# Altium footprint library QB50_base_board.PcbLib: 25 footprints (part 1 of 2)
Each footprint in its own frame and in the unit in brackets; x right, y up, seen from the top. Pads: shape width x height; smd on the part's side, far side on the other; paste and mask are expansions set on the pad; w line width, h text height; cw(c..) or ccw(c..) is an arc to the next point about the centre after c.
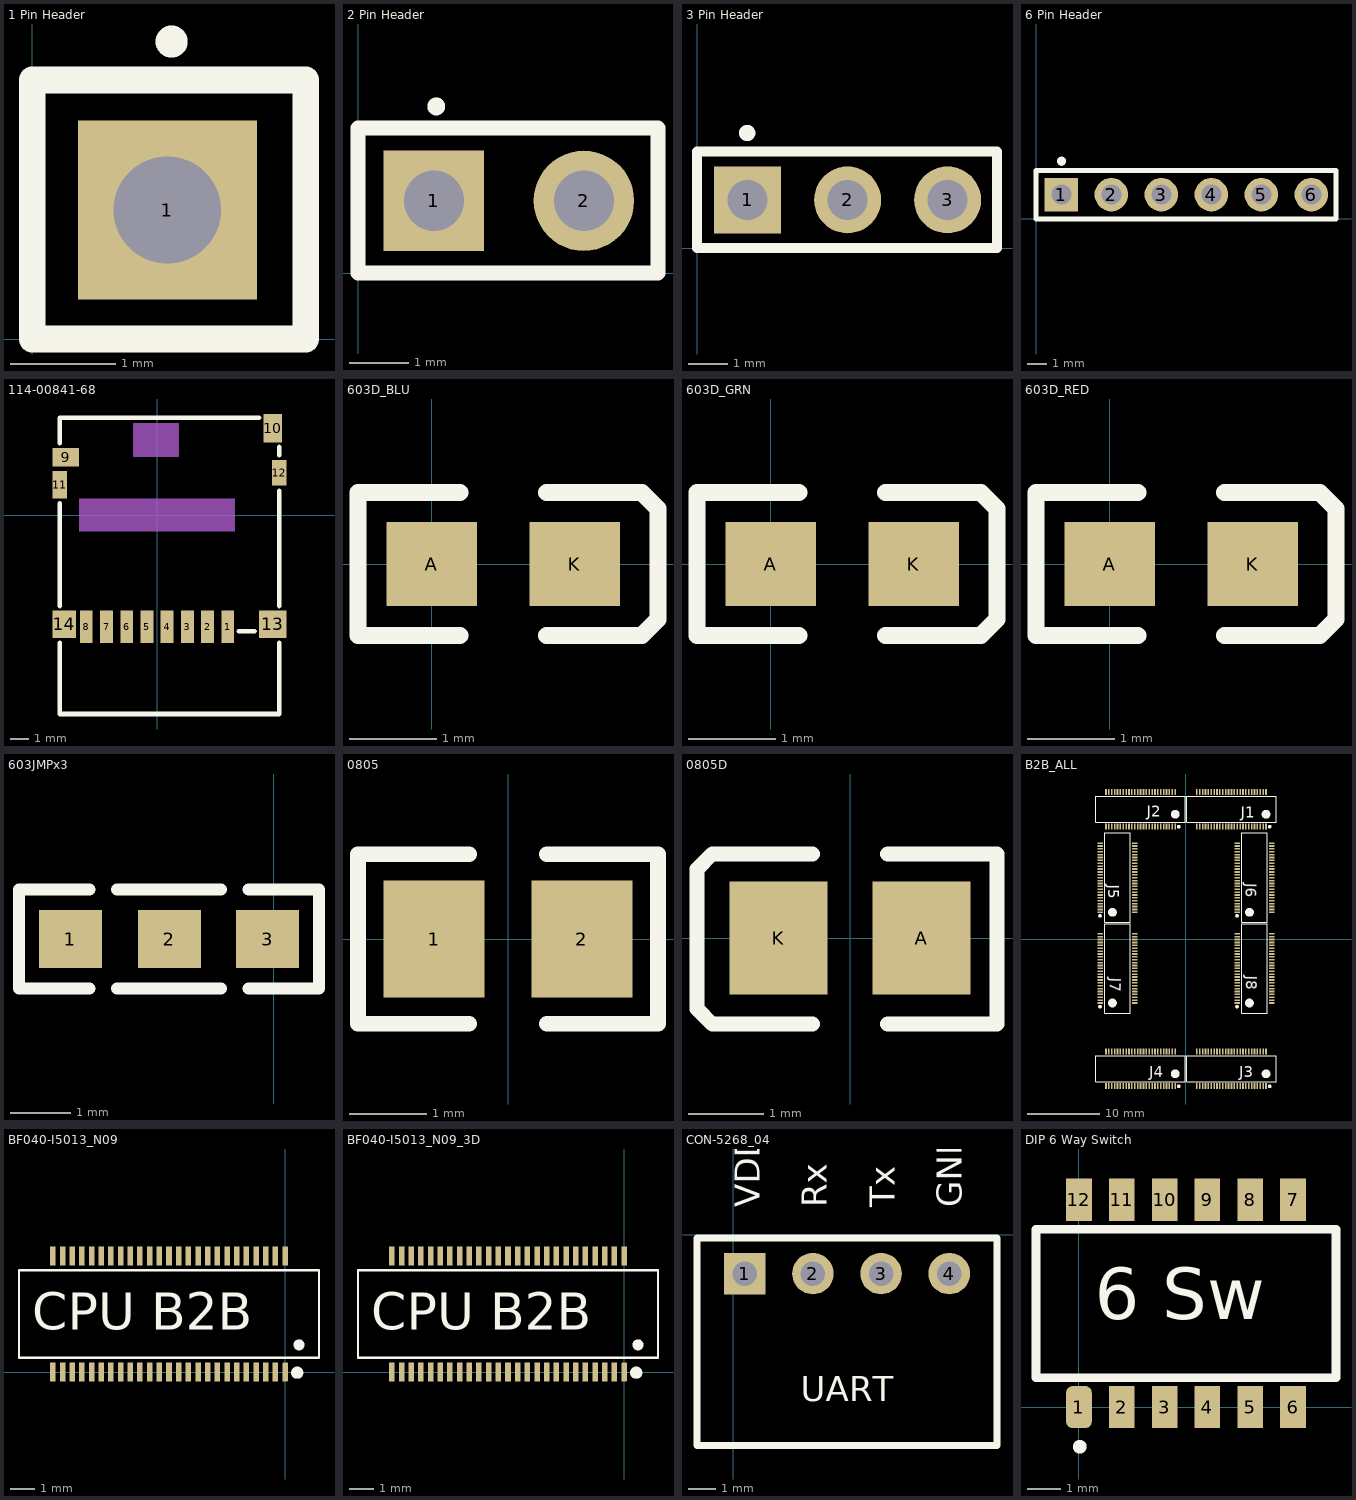
[diagram p0: the footprints below, top view; thin cyan lines are the x and y axes]

## 1 Pin Header [mm] "1-pin header plug"
pads (1):
  rect 1.7x1.7 hole 1.02: 1(1.285,1.225)
Top Overlay:
  circle w0.254: c1.325,2.825 r0.025
  lines w0.254: 0,0 2.6,0 2.6,2.46 0,2.46 0,0

## 2 Pin Header [mm] "2-pin header plug"
pads (2):
  rect 1.7x1.7 hole 1.02: 1(1.285,1.225)
  round 1.7 hole 1.02: 2(3.825,1.225)
Top Overlay:
  circle w0.254: c1.325,2.825 r0.025
  lines w0.254: 0,0 5.08,0 5.08,2.46 0,2.46 0,0

## 3 Pin Header [mm] "3-pin header plug"
pads (3):
  rect 1.7x1.7 hole 1.02: 1(1.285,1.225)
  round 1.7 hole 1.02: 2(3.825,1.225) 3(6.365,1.225)
Top Overlay:
  circle w0.254: c1.275,2.925 r0.079
  lines w0.254: 0,0 0,2.46 7.62,2.46 7.62,0 0,0

## 6 Pin Header [mm] "6-pin header plug"
pads (6):
  rect 1.7x1.7 hole 1.02: 1(1.285,1.225)
  round 1.7 hole 1.02: 2(3.825,1.225) 3(6.365,1.225) 4(8.905,1.225) 5(11.445,1.225) 6(13.985,1.225)
Top Overlay:
  circle w0.254: c1.297,2.925 r0.103
  lines w0.254: 0,0 15.24,0 15.24,2.46 0,2.46 0,0

## 114-00841-68 [mm] "Amphenol MicroSD Card Connector"
height 3
pads (14):
  rect 0.7x1.75 smd: 1(3.85,-6.075) 2(2.75,-6.075) 3(1.65,-6.075) 4(0.55,-6.075) 5(-0.55,-6.075) 6(-1.65,-6.075) 7(-2.75,-6.075) 8(-3.85,-6.075)
  rect 1.45x1 smd: 9(-4.975,3.15)
  rect 1x1.55 smd: 10(6.3,4.725)
  rect 0.8x1.5 smd: 11(-5.3,1.65)
  rect 0.8x1.4 smd: 12(6.65,2.3)
  rect 1.5x1.5 smd: 13(6.3,-5.95)
  rect 1.3x1.5 smd: 14(-5.05,-5.95)
Top Overlay:
  lines w0.254: -5.3,-6.95 -5.3,-10.825 6.65,-10.825 6.65,-6.95 ; -5.3,-4.95 -5.3,0.65 ; -5.3,3.9 -5.3,5.3 5.55,5.3 ; 4.45,-6.325 5.3,-6.325 ; 6.65,-4.95 6.65,1.325 ; 6.65,3.25 6.65,3.7
Mechanical 13:
  rectangle: -1.3,3.15 1.2,5
  rectangle: -4.25,-0.9 4.25,0.9
3D body: height 1.6, standoff 0.5, extent -4.95,-10.6 6.225,-9.25
3D body: height 1.45, standoff 0.5, extent -4.95,-10.6 6.225,-6.675
3D body: height 1.55, standoff 0, extent -5.3,-6.675 6.65,5.3

## 603D_BLU [mm] "blue led"
pads (2):
  rect 1.04x0.96 smd: A(0,0) K(1.64,0)
Top Overlay:
  lines w0.2: 0.32,-0.822 -0.85,-0.822 -0.85,0.822 0.32,0.822 ; 1.32,-0.822 2.411,-0.822 2.598,-0.635 2.598,0.635 2.411,0.822 1.32,0.822
3D body: height 0.8, standoff 0, extent -0.1,-0.475 1.75,0.475

## 603D_GRN [mm] "Green LED"
pads (2):
  rect 1.04x0.96 smd: A(0,0) K(1.64,0)
Top Overlay:
  lines w0.2: 0.32,-0.822 -0.85,-0.822 -0.85,0.822 0.32,0.822 ; 1.32,-0.822 2.411,-0.822 2.598,-0.635 2.598,0.635 2.411,0.822 1.32,0.822
3D body: height 0.8, standoff 0, extent -0.1,-0.475 1.75,0.475

## 603D_RED [mm] "red led"
pads (2):
  rect 1.04x0.96 smd: A(0,0) K(1.64,0)
Top Overlay:
  lines w0.2: 0.32,-0.822 -0.85,-0.822 -0.85,0.822 0.32,0.822 ; 1.32,-0.822 2.411,-0.822 2.598,-0.635 2.598,0.635 2.411,0.822 1.32,0.822
3D body: height 0.8, standoff 0, extent -0.1,-0.475 1.75,0.475

## 603JMPx3 [mm] "3 pin jumper based on 603 print"
pads (3):
  rect 1.04x0.96 smd: 1(-3.37,-3.725) 2(-1.73,-3.725) 3(-0.105,-3.725)
Top Overlay:
  lines w0.2: -3.05,-4.547 -4.22,-4.547 -4.22,-2.903 -3.05,-2.903 ; -2.595,-4.547 -1.425,-4.547 ; -2.595,-2.903 -1.425,-2.903 ; -2.05,-4.547 -0.88,-4.547 ; -2.05,-2.903 -0.88,-2.903 ; -0.425,-4.547 0.745,-4.547 0.745,-2.903 -0.425,-2.903

## 0805 [mm] "0805 Footprint"
height 1
pads (2):
  rect 1.3x1.5 smd: 1(-0.95,0) 2(0.95,0)
Top Overlay:
  lines w0.2: -0.5,-1.092 -1.93,-1.092 -1.93,1.092 -0.5,1.092 ; 0.5,-1.092 1.93,-1.092 1.93,1.092 0.5,1.092
3D body "User Library-0805 SMD Resistor.step": height 0.8, standoff 0.02, extent -1.025,-0.64 0.975,0.61

## 0805D [mm] "0805 Diode"
height 1
pads (2):
  rect 1.3x1.5 smd: A(0.95,0) K(-0.95,0)
Top Overlay:
  lines w0.2: -0.5,-1.143 -1.829,-1.143 -2.032,-0.94 -2.032,0.914 -1.829,1.118 -0.5,1.118 ; 0.5,-1.143 1.95,-1.143 1.95,1.118 0.5,1.118
3D body "User Library-led_0805.step": height 1.1, standoff 0, extent -1.01,-0.625 1.01,0.625

## B2B_ALL [mm] "For Reference only - Hard Kernel CPU Board"
pads (400):
  rect 0.8x0.23 smd paste+0 mask+0.05: 1(-11.9,-8.875) 1(-11.9,-8.475) 1(-11.9,-8.075) 1(-11.9,-7.675) 1(-11.9,-7.275) 1(-11.9,-6.875) 1(-11.9,-6.475) 1(-11.9,-6.075) 1(-11.9,-5.675) 1(-11.9,-5.275) 1(-11.9,-4.875) 1(-11.9,-4.475) 1(-11.9,-4.075) 1(-11.9,-3.675) 1(-11.9,-3.275) 1(-11.9,-2.875) 1(-11.9,-2.475) 1(-11.9,-2.075) 1(-11.9,-1.675) 1(-11.9,-1.275) 1(-11.9,-0.875) 1(-11.9,-0.475) 1(-11.9,-0.075) 1(-11.9,0.325) 1(-11.9,0.725) 1(-11.9,3.7) 1(-11.9,4.1) 1(-11.9,4.5) 1(-11.9,4.9) 1(-11.9,5.3) 1(-11.9,5.7) 1(-11.9,6.1) 1(-11.9,6.5) 1(-11.9,6.9) 1(-11.9,7.3) 1(-11.9,7.7) 1(-11.9,8.1) 1(-11.9,8.5) 1(-11.9,8.9) 1(-11.9,9.3) 1(-11.9,9.7) 1(-11.9,10.1) 1(-11.9,10.5) 1(-11.9,10.9) 1(-11.9,11.3) 1(-11.9,11.7) 1(-11.9,12.1) 1(-11.9,12.5) 1(-11.9,12.9) 1(-11.9,13.3) 1(-7.1,-8.875) 1(-7.1,-8.475) 1(-7.1,-8.075) 1(-7.1,-7.675) 1(-7.1,-7.275) 1(-7.1,-6.875) 1(-7.1,-6.475) 1(-7.1,-6.075) 1(-7.1,-5.675) 1(-7.1,-5.275) 1(-7.1,-4.875) 1(-7.1,-4.475) 1(-7.1,-4.075) 1(-7.1,-3.675) 1(-7.1,-3.275) 1(-7.1,-2.875) 1(-7.1,-2.475) 1(-7.1,-2.075) 1(-7.1,-1.675) 1(-7.1,-1.275) 1(-7.1,-0.875) 1(-7.1,-0.475) 1(-7.1,-0.075) 1(-7.1,0.325) 1(-7.1,0.725) 1(-7.1,3.7) 1(-7.1,4.1) 1(-7.1,4.5) 1(-7.1,4.9) 1(-7.1,5.3) 1(-7.1,5.7) 1(-7.1,6.1) 1(-7.1,6.5) 1(-7.1,6.9) 1(-7.1,7.3) 1(-7.1,7.7) 1(-7.1,8.1) 1(-7.1,8.5) 1(-7.1,8.9) 1(-7.1,9.3) 1(-7.1,9.7) 1(-7.1,10.1) 1(-7.1,10.5) 1(-7.1,10.9) 1(-7.1,11.3) 1(-7.1,11.7) 1(-7.1,12.1) 1(-7.1,12.5) 1(-7.1,12.9) 1(-7.1,13.3) 1(7.1,-8.875) 1(7.1,-8.475) 1(7.1,-8.075) 1(7.1,-7.675) 1(7.1,-7.275) 1(7.1,-6.875) 1(7.1,-6.475) 1(7.1,-6.075) 1(7.1,-5.675) 1(7.1,-5.275) 1(7.1,-4.875) 1(7.1,-4.475) 1(7.1,-4.075) 1(7.1,-3.675) 1(7.1,-3.275) 1(7.1,-2.875) 1(7.1,-2.475) 1(7.1,-2.075) 1(7.1,-1.675) 1(7.1,-1.275) 1(7.1,-0.875) 1(7.1,-0.475) 1(7.1,-0.075) 1(7.1,0.325) 1(7.1,0.725) 1(7.1,3.7) 1(7.1,4.1) 1(7.1,4.5) 1(7.1,4.9) 1(7.1,5.3) 1(7.1,5.7) 1(7.1,6.1) 1(7.1,6.5) 1(7.1,6.9) 1(7.1,7.3) 1(7.1,7.7) 1(7.1,8.1) 1(7.1,8.5) 1(7.1,8.9) 1(7.1,9.3) 1(7.1,9.7) 1(7.1,10.1) 1(7.1,10.5) 1(7.1,10.9) 1(7.1,11.3) 1(7.1,11.7) 1(7.1,12.1) 1(7.1,12.5) 1(7.1,12.9) 1(11.9,-8.875) 1(11.9,-8.475) 1(11.9,-8.075) 1(11.9,-7.675) 1(11.9,-7.275) 1(11.9,-6.875) 1(11.9,-6.475) 1(11.9,-6.075) 1(11.9,-5.675) 1(11.9,-5.275) 1(11.9,-4.875) 1(11.9,-4.475) 1(11.9,-4.075) 1(11.9,-3.675) 1(11.9,-3.275) 1(11.9,-2.875) 1(11.9,-2.475) 1(11.9,-2.075) 1(11.9,-1.675) 1(11.9,-1.275) 1(11.9,-0.875) 1(11.9,-0.475) 1(11.9,-0.075) 1(11.9,0.325) 1(11.9,0.725) 1(11.9,3.7) 1(11.9,4.1) 1(11.9,4.5) 1(11.9,4.9) 1(11.9,5.3) 1(11.9,5.7) 1(11.9,6.1) 1(11.9,6.5) 1(11.9,6.9) 1(11.9,7.3) 1(11.9,7.7) 1(11.9,8.1) 1(11.9,8.5) 1(11.9,8.9) 1(11.9,9.3) 1(11.9,9.7) 1(11.9,10.1) 1(11.9,10.5) 1(11.9,10.9) 1(11.9,11.3) 1(11.9,11.7) 1(11.9,12.1) 1(11.9,12.5) 1(11.9,12.9) 1(11.9,13.3)
  rect 0.23x0.8 smd paste+0 mask+0.05: 1(-11.1,-20.4) 1(-11.1,-15.6) 1(-11.1,15.6) 1(-11.1,20.4) 1(-10.7,-20.4) 1(-10.7,-15.6) 1(-10.7,15.6) 1(-10.7,20.4) 1(-10.3,-20.4) 1(-10.3,-15.6) 1(-10.3,15.6) 1(-10.3,20.4) 1(-9.9,-20.4) 1(-9.9,-15.6) 1(-9.9,15.6) 1(-9.9,20.4) 1(-9.5,-20.4) 1(-9.5,-15.6) 1(-9.5,15.6) 1(-9.5,20.4) 1(-9.1,-20.4) 1(-9.1,-15.6) 1(-9.1,15.6) 1(-9.1,20.4) 1(-8.7,-20.4) 1(-8.7,-15.6) 1(-8.7,15.6) 1(-8.7,20.4) 1(-8.3,-20.4) 1(-8.3,-15.6) 1(-8.3,15.6) 1(-8.3,20.4) 1(-7.9,-20.4) 1(-7.9,-15.6) 1(-7.9,15.6) 1(-7.9,20.4) 1(-7.5,-20.4) 1(-7.5,-15.6) 1(-7.5,15.6) 1(-7.5,20.4) 1(-7.1,-20.4) 1(-7.1,-15.6) 1(-7.1,15.6) 1(-7.1,20.4) 1(-6.7,-20.4) 1(-6.7,-15.6) 1(-6.7,15.6) 1(-6.7,20.4) 1(-6.3,-20.4) 1(-6.3,-15.6) 1(-6.3,15.6) 1(-6.3,20.4) 1(-5.9,-20.4) 1(-5.9,-15.6) 1(-5.9,15.6) 1(-5.9,20.4) 1(-5.5,-20.4) 1(-5.5,-15.6) 1(-5.5,15.6) 1(-5.5,20.4) 1(-5.1,-20.4) 1(-5.1,-15.6) 1(-5.1,15.6) 1(-5.1,20.4) 1(-4.7,-20.4) 1(-4.7,-15.6) 1(-4.7,15.6) 1(-4.7,20.4) 1(-4.3,-20.4) 1(-4.3,-15.6) 1(-4.3,15.6) 1(-4.3,20.4) 1(-3.9,-20.4) 1(-3.9,-15.6) 1(-3.9,15.6) 1(-3.9,20.4) 1(-3.5,-20.4) 1(-3.5,-15.6) 1(-3.5,15.6) 1(-3.5,20.4) 1(-3.1,-20.4) 1(-3.1,-15.6) 1(-3.1,15.6) 1(-3.1,20.4) 1(-2.7,-20.4) 1(-2.7,-15.6) 1(-2.7,15.6) 1(-2.7,20.4) 1(-2.3,-20.4) 1(-2.3,-15.6) 1(-2.3,15.6) 1(-2.3,20.4) 1(-1.9,-20.4) 1(-1.9,-15.6) 1(-1.9,15.6) 1(-1.9,20.4) 1(-1.5,-20.4) 1(-1.5,-15.6) 1(-1.5,15.6) 1(-1.5,20.4) 1(1.5,-20.4) 1(1.5,-15.6) 1(1.5,15.6) 1(1.5,20.4) 1(1.9,-20.4) 1(1.9,-15.6) 1(1.9,15.6) 1(1.9,20.4) 1(2.3,-20.4) 1(2.3,-15.6) 1(2.3,15.6) 1(2.3,20.4) 1(2.7,-20.4) 1(2.7,-15.6) 1(2.7,15.6) 1(2.7,20.4) 1(3.1,-20.4) 1(3.1,-15.6) 1(3.1,15.6) 1(3.1,20.4) 1(3.5,-20.4) 1(3.5,-15.6) 1(3.5,15.6) 1(3.5,20.4) 1(3.9,-20.4) 1(3.9,-15.6) 1(3.9,15.6) 1(3.9,20.4) 1(4.3,-20.4) 1(4.3,-15.6) 1(4.3,15.6) 1(4.3,20.4) 1(4.7,-20.4) 1(4.7,-15.6) 1(4.7,15.6) 1(4.7,20.4) 1(5.1,-20.4) 1(5.1,-15.6) 1(5.1,15.6) 1(5.1,20.4) 1(5.5,-20.4) 1(5.5,-15.6) 1(5.5,15.6) 1(5.5,20.4) 1(5.9,-20.4) 1(5.9,-15.6) 1(5.9,15.6) 1(5.9,20.4) 1(6.3,-20.4) 1(6.3,-15.6) 1(6.3,15.6) 1(6.3,20.4) 1(6.7,-20.4) 1(6.7,-15.6) 1(6.7,15.6) 1(6.7,20.4) 1(7.1,-20.4) 1(7.1,-15.6) 1(7.1,15.6) 1(7.1,20.4) 1(7.5,-20.4) 1(7.5,-15.6) 1(7.5,15.6) 1(7.5,20.4) 1(7.9,-20.4) 1(7.9,-15.6) 1(7.9,15.6) 1(7.9,20.4) 1(8.3,-20.4) 1(8.3,-15.6) 1(8.3,15.6) 1(8.3,20.4) 1(8.7,-20.4) 1(8.7,-15.6) 1(8.7,15.6) 1(8.7,20.4) 1(9.1,-20.4) 1(9.1,-15.6) 1(9.1,15.6) 1(9.1,20.4) 1(9.5,-20.4) 1(9.5,-15.6) 1(9.5,15.6) 1(9.5,20.4) 1(9.9,-20.4) 1(9.9,-15.6) 1(9.9,15.6) 1(9.9,20.4) 1(10.3,-20.4) 1(10.3,-15.6) 1(10.3,15.6) 1(10.3,20.4) 1(10.7,-20.4) 1(10.7,-15.6) 1(10.7,15.6) 1(10.7,20.4) 1(11.1,-20.4) 1(11.1,-15.6) 1(11.1,15.6) 1(11.1,20.4)
  rect 0.8x0.23 smd: 1(7.1,13.3)
Top Layer:
  text "For Reference Only" at 2.911,13.401 h1.52
  text "For Reference Only" at -4.989,13.751 h1.52
  text "For Reference Only" at -0.714,13.826 h1.52
Top Overlay:
  drawing of 1472 lines, arcs and shapes, not listed
  text "J3" at 7.386,-19.174 h1.52
  text "J4" at -5.114,-19.174 h1.52
  text "J8" at 8.386,-5.074 h1.52
  text "J7" at -10.514,-5.374 h1.52
  text "J6" at 8.286,7.726 h1.52
  text "J5" at -10.814,7.526 h1.52
  text "J2" at -5.414,16.926 h1.52
  text "J1" at 7.586,16.826 h1.52

## BF040-I5013_N09 [mm] "Single B2B Connector for Hard Kernel CPU Module"
pads (50):
  rrect50% 0.23x0.8 smd paste+0 mask+0.05: 1(0,0)
  rect 0.23x0.8 smd paste+0 mask+0.05: 2(-0.4,0) 3(-0.8,0) 4(-1.2,0) 5(-1.6,0) 6(-2,0) 7(-2.4,0) 8(-2.8,0) 9(-3.2,0) 10(-3.6,0) 11(-4,0) 12(-4.4,0) 13(-4.8,0) 14(-5.2,0) 15(-5.6,0) 16(-6,0) 17(-6.4,0) 18(-6.8,0) 19(-7.2,0) 20(-7.6,0) 21(-8,0) 22(-8.4,0) 23(-8.8,0) 24(-9.2,0) 25(-9.6,0) 26(-9.6,4.8) 27(-9.2,4.8) 28(-8.8,4.8) 29(-8.4,4.8) 30(-8,4.8) 31(-7.6,4.8) 32(-7.2,4.8) 33(-6.8,4.8) 34(-6.4,4.8) 35(-6,4.8) 36(-5.6,4.8) 37(-5.2,4.8) 38(-4.8,4.8) 39(-4.4,4.8) 40(-4,4.8) 41(-3.6,4.8) 42(-3.2,4.8) 43(-2.8,4.8) 44(-2.4,4.8) 45(-2,4.8) 46(-1.6,4.8) 47(-1.2,4.8) 48(-0.8,4.8) 49(-0.4,4.8) 50(0,4.8)
Top Overlay:
  circle w0.254: c0.575,1.125 r0.1
  lines w0.1: -11,0.6 1.4,0.6 1.4,4.2 -11,4.2 -11,0.6
  lines w0.25: 0.375,-0.025 0.375,-0.034 0.376,-0.042 0.378,-0.051 0.38,-0.059 0.383,-0.068 0.386,-0.076 0.39,-0.084 0.394,-0.091 0.399,-0.098 0.404,-0.105 0.41,-0.112 0.416,-0.118 0.423,-0.123 0.43,-0.129 0.437,-0.133 0.445,-0.137 0.453,-0.141 0.461,-0.144 0.47,-0.146 0.478,-0.148 0.487,-0.149 0.496,-0.15 0.504,-0.15 0.513,-0.149 0.522,-0.148 0.53,-0.146 0.539,-0.144 0.547,-0.141 0.555,-0.137 0.563,-0.133 0.57,-0.129 0.577,-0.123 0.584,-0.118 0.59,-0.112 0.596,-0.105 0.601,-0.098 0.606,-0.091 0.61,-0.084 0.614,-0.076 0.617,-0.068 0.62,-0.059 0.622,-0.051 0.624,-0.042 0.625,-0.034 0.625,-0.025 0.625,-0.016 0.624,-0.008 0.622,0.001 0.62,0.009 0.617,0.018 0.614,0.026 0.61,0.034 0.606,0.041 0.601,0.048 0.596,0.055 0.59,0.062 0.584,0.068 0.577,0.074 0.57,0.079 0.563,0.083 0.555,0.087 0.547,0.091 0.539,0.094 0.53,0.096 0.522,0.098 0.513,0.099 0.504,0.1 0.496,0.1 0.487,0.099 0.478,0.098 0.47,0.096 0.461,0.094 0.453,0.091 0.445,0.087 0.437,0.083 0.43,0.079 0.423,0.074 0.416,0.068 0.41,0.062 0.404,0.055 0.399,0.048 0.394,0.041 0.39,0.034 0.386,0.026 0.383,0.018 0.38,0.009 0.378,0.001 0.376,-0.008 0.375,-0.016 0.375,-0.025
  text "CPU B2B" at -10.45,1.75 h1.52
3D body: height 0.8, standoff 0, extent -10.95,0.65 1.35,4.15

## BF040-I5013_N09_3D [mm]
pads (50):
  rrect50% 0.23x0.8 smd paste+0 mask+0.05: 1(0,0)
  rect 0.23x0.8 smd paste+0 mask+0.05: 2(-0.4,0) 3(-0.8,0) 4(-1.2,0) 5(-1.6,0) 6(-2,0) 7(-2.4,0) 8(-2.8,0) 9(-3.2,0) 10(-3.6,0) 11(-4,0) 12(-4.4,0) 13(-4.8,0) 14(-5.2,0) 15(-5.6,0) 16(-6,0) 17(-6.4,0) 18(-6.8,0) 19(-7.2,0) 20(-7.6,0) 21(-8,0) 22(-8.4,0) 23(-8.8,0) 24(-9.2,0) 25(-9.6,0) 26(-9.6,4.8) 27(-9.2,4.8) 28(-8.8,4.8) 29(-8.4,4.8) 30(-8,4.8) 31(-7.6,4.8) 32(-7.2,4.8) 33(-6.8,4.8) 34(-6.4,4.8) 35(-6,4.8) 36(-5.6,4.8) 37(-5.2,4.8) 38(-4.8,4.8) 39(-4.4,4.8) 40(-4,4.8) 41(-3.6,4.8) 42(-3.2,4.8) 43(-2.8,4.8) 44(-2.4,4.8) 45(-2,4.8) 46(-1.6,4.8) 47(-1.2,4.8) 48(-0.8,4.8) 49(-0.4,4.8) 50(0,4.8)
Top Overlay:
  circle w0.254: c0.575,1.125 r0.1
  lines w0.1: -11,0.6 -11,4.2 1.4,4.2 1.4,0.6 -11,0.6
  lines w0.25: 0.375,-0.025 0.375,-0.016 0.376,-0.008 0.378,0.001 0.38,0.009 0.383,0.018 0.386,0.026 0.39,0.034 0.394,0.041 0.399,0.048 0.404,0.055 0.41,0.062 0.416,0.068 0.423,0.074 0.43,0.079 0.437,0.083 0.445,0.087 0.453,0.091 0.461,0.094 0.47,0.096 0.478,0.098 0.487,0.099 0.496,0.1 0.504,0.1 0.513,0.099 0.522,0.098 0.53,0.096 0.539,0.094 0.547,0.091 0.555,0.087 0.563,0.083 0.57,0.079 0.577,0.074 0.584,0.068 0.59,0.062 0.596,0.055 0.601,0.048 0.606,0.041 0.61,0.034 0.614,0.026 0.617,0.018 0.62,0.009 0.622,0.001 0.624,-0.008 0.625,-0.016 0.625,-0.025 0.625,-0.034 0.624,-0.042 0.622,-0.051 0.62,-0.059 0.617,-0.068 0.614,-0.076 0.61,-0.084 0.606,-0.091 0.601,-0.098 0.596,-0.105 0.59,-0.112 0.584,-0.118 0.577,-0.123 0.57,-0.129 0.563,-0.133 0.555,-0.137 0.547,-0.141 0.539,-0.144 0.53,-0.146 0.522,-0.148 0.513,-0.149 0.504,-0.15 0.496,-0.15 0.487,-0.149 0.478,-0.148 0.47,-0.146 0.461,-0.144 0.453,-0.141 0.445,-0.137 0.437,-0.133 0.43,-0.129 0.423,-0.123 0.416,-0.118 0.41,-0.112 0.404,-0.105 0.399,-0.098 0.394,-0.091 0.39,-0.084 0.386,-0.076 0.383,-0.068 0.38,-0.059 0.378,-0.051 0.376,-0.042 0.375,-0.034 0.375,-0.025
  text "CPU B2B" at -10.45,1.75 h1.52
3D body: height 0, standoff 0, extent 0.385,-0.076 0.385,-0.076
3D body: height 2.4, standoff 0.8, extent -11,-1.5 14,41.5
3D body: height 0.8, standoff 0, extent -10.95,0.65 1.35,4.15

## CON-5268_04 [mm] "UART Connector"
pads (4):
  rect 1.524x1.524 hole 0.9: 1(0.425,-1.425)
  round 1.524 hole 0.9: 2(2.925,-1.425) 3(5.425,-1.425) 4(7.925,-1.425)
Top Overlay:
  lines w0.254: -1.325,-7.725 -1.325,-0.125 9.675,-0.125 9.675,-7.725 -1.325,-7.725
  text "UART" at 2.475,-6.1 h0.91
  text "Rx" at 3.425,1 h0.91
  text "Tx" at 5.925,1 h0.91
  text "GND" at 8.375,1 h0.91
  text "VDD" at 0.975,1 h0.91

## DIP 6 Way Switch [mm] "6 Way Dual In Line Switch"
pads (12):
  rrect50% 0.76x1.25 smd: 1(0,0)
  rect 0.76x1.25 smd: 2(1.27,0) 3(2.54,0) 4(3.81,0) 5(5.08,0) 6(6.35,0) 7(6.35,6.15) 8(5.08,6.15) 9(3.81,6.15) 10(2.54,6.15) 11(1.27,6.15) 12(0,6.15)
Top Overlay:
  circle w0.254: c0.025,-1.175 r0.075
  lines w0.254: -1.275,0.875 7.625,0.875 7.625,5.275 -1.275,5.275 -1.275,0.875
  text "6 Sw" at 0.475,2.6 h1.52
3D body: height 1.5, standoff 0, extent -1.275,0.825 7.625,5.325